# EAGLE library part DSPIC30F3011 (library @Club_Microchip_divers-)
dsPIC Motion Controller DSC
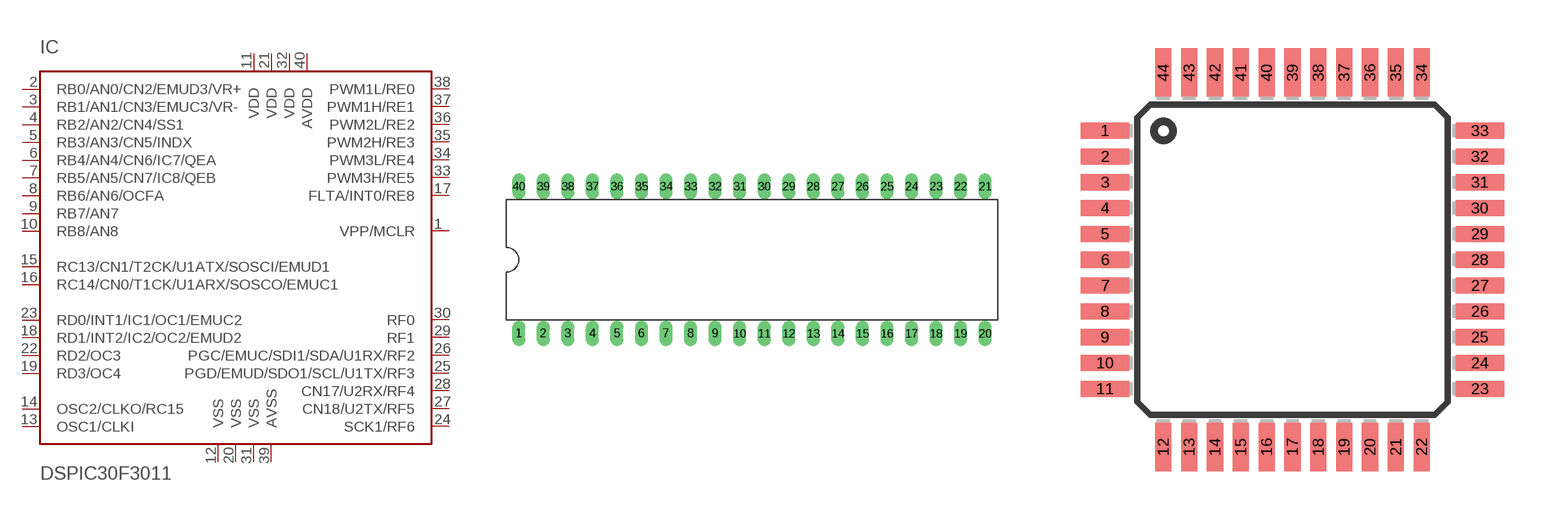
[diagram p16: symbol with the pads of DIL40; footprints DIL40, TQFP44]

Designator prefix IC

## DSPIC30F3011/P  [DIL40]
1  VPP/MCLR  in
2  RB0/AN0/CN2/EMUD3/VR+
3  RB1/AN1/CN3/EMUC3/VR-
4  RB2/AN2/CN4/SS1
5  RB3/AN3/CN5/INDX
6  RB4/AN4/CN6/IC7/QEA
7  RB5/AN5/CN7/IC8/QEB
8  RB6/AN6/OCFA
9  RB7/AN7
10  RB8/AN8
11  VDD  pwr
12  VSS  pwr
13  OSC1/CLKI  in
14  OSC2/CLKO/RC15
15  RC13/CN1/T2CK/U1ATX/SOSCI/EMUD1
16  RC14/CN0/T1CK/U1ARX/SOSCO/EMUC1
17  FLTA/INT0/RE8
18  RD1/INT2/IC2/OC2/EMUD2
19  RD3/OC4
20  VSS  pwr
21  VDD  pwr
22  RD2/OC3
23  RD0/INT1/IC1/OC1/EMUC2
24  SCK1/RF6
25  PGD/EMUD/SDO1/SCL/U1TX/RF3
26  PGC/EMUC/SDI1/SDA/U1RX/RF2
27  CN18/U2TX/RF5
28  CN17/U2RX/RF4
29  RF1
30  RF0
31  VSS  pwr
32  VDD  pwr
33  PWM3H/RE5
34  PWM3L/RE4
35  PWM2H/RE3
36  PWM2L/RE2
37  PWM1H/RE1
38  PWM1L/RE0
39  AVSS  pwr
40  AVDD  pwr

## DSPIC30F3011/PT  [TQFP44]
1  PGC/EMUC/SDI1/SDA/U1RX/RF2
2  CN18/U2TX/RF5
3  CN17/U2RX/RF4
4  RF1
5  RF0
6  VSS  pwr
7  VDD  pwr
8  PWM3H/RE5
9  PWM3L/RE4
10  PWM2H/RE3
11  PWM2L/RE2
14  PWM1H/RE1
15  PWM1L/RE0
16  AVSS  pwr
17  AVDD  pwr
18  VPP/MCLR  in
19  RB0/AN0/CN2/EMUD3/VR+
20  RB1/AN1/CN3/EMUC3/VR-
21  RB2/AN2/CN4/SS1
22  RB3/AN3/CN5/INDX
23  RB4/AN4/CN6/IC7/QEA
24  RB5/AN5/CN7/IC8/QEB
25  RB6/AN6/OCFA
26  RB7/AN7
27  RB8/AN8
28  VDD  pwr
29  VSS  pwr
30  OSC1/CLKI  in
31  OSC2/CLKO/RC15
32  RC13/CN1/T2CK/U1ATX/SOSCI/EMUD1
35  RC14/CN0/T1CK/U1ARX/SOSCO/EMUC1
36  FLTA/INT0/RE8
37  RD1/INT2/IC2/OC2/EMUD2
38  RD3/OC4
39  VSS  pwr
40  VDD  pwr
41  RD2/OC3
42  RD0/INT1/IC1/OC1/EMUC2
43  SCK1/RF6
44  PGD/EMUD/SDO1/SCL/U1TX/RF3

## DSPIC30F3011/ML  [QFN44-8X8]
1  PGC/EMUC/SDI1/SDA/U1RX/RF2
2  CN18/U2TX/RF5
3  CN17/U2RX/RF4
4  RF1
5  RF0
6  VSS  pwr
7  VDD  pwr
9  PWM3H/RE5
10  PWM3L/RE4
11  PWM2H/RE3
12  PWM2L/RE2
14  PWM1H/RE1
15  PWM1L/RE0
16  AVSS  pwr
17  AVDD  pwr
18  VPP/MCLR  in
19  RB0/AN0/CN2/EMUD3/VR+
20  RB1/AN1/CN3/EMUC3/VR-
21  RB2/AN2/CN4/SS1
22  RB3/AN3/CN5/INDX
23  RB4/AN4/CN6/IC7/QEA
24  RB5/AN5/CN7/IC8/QEB
25  RB6/AN6/OCFA
26  RB7/AN7
27  RB8/AN8
28  VDD  pwr
30  VSS  pwr
32  OSC1/CLKI  in
33  OSC2/CLKO/RC15
34  RC13/CN1/T2CK/U1ATX/SOSCI/EMUD1
35  RC14/CN0/T1CK/U1ARX/SOSCO/EMUC1
36  FLTA/INT0/RE8
37  RD1/INT2/IC2/OC2/EMUD2
38  RD3/OC4
39  VSS  pwr
40  VDD  pwr
41  RD2/OC3
42  RD0/INT1/IC1/OC1/EMUC2
43  SCK1/RF6
44  PGD/EMUD/SDO1/SCL/U1TX/RF3

## Footprint DIL40 (pad centres in mm)
Dual In Line package type P
drill 0.813 long: 1 -24.13,-7.62; 2 -21.59,-7.62; 3 -19.05,-7.62; 4 -16.51,-7.62; 5 -13.97,-7.62; 6 -11.43,-7.62; 7 -8.89,-7.62; 8 -6.35,-7.62; 9 -3.81,-7.62; 10 -1.27,-7.62; 11 1.27,-7.62; 12 3.81,-7.62; 13 6.35,-7.62; 14 8.89,-7.62; 15 11.43,-7.62; 16 13.97,-7.62; 17 16.51,-7.62; 18 19.05,-7.62; 19 21.59,-7.62; 20 24.13,-7.62; 21 24.13,7.62; 22 21.59,7.62; 23 19.05,7.62; 24 16.51,7.62; 25 13.97,7.62; 26 11.43,7.62; 27 8.89,7.62; 28 6.35,7.62; 29 3.81,7.62; 30 1.27,7.62; 31 -1.27,7.62; 32 -3.81,7.62; 33 -6.35,7.62; 34 -8.89,7.62; 35 -11.43,7.62; 36 -13.97,7.62; 37 -16.51,7.62; 38 -19.05,7.62; 39 -21.59,7.62; 40 -24.13,7.62

## Footprint TQFP44 (pad centres in mm)
Thin Quad Flat Pack package type TQ
smd 1.5 x 0.5: 1 -5.8,4; 2 -5.8,3.2; 3 -5.8,2.4; 4 -5.8,1.6; 5 -5.8,0.8; 6 -5.8,0; 7 -5.8,-0.8; 8 -5.8,-1.6; 9 -5.8,-2.4; 10 -5.8,-3.2; 11 -5.8,-4; 23 5.8,-4; 24 5.8,-3.2; 25 5.8,-2.4; 26 5.8,-1.6; 27 5.8,-0.8; 28 5.8,0; 29 5.8,0.8; 30 5.8,1.6; 31 5.8,2.4; 32 5.8,3.2; 33 5.8,4
smd 0.5 x 1.5: 12 -4,-5.8; 13 -3.2,-5.8; 14 -2.4,-5.8; 15 -1.6,-5.8; 16 -0.8,-5.8; 17 0,-5.8; 18 0.8,-5.8; 19 1.6,-5.8; 20 2.4,-5.8; 21 3.2,-5.8; 22 4,-5.8; 34 4,5.8; 35 3.2,5.8; 36 2.4,5.8; 37 1.6,5.8; 38 0.8,5.8; 39 0,5.8; 40 -0.8,5.8; 41 -1.6,5.8; 42 -2.4,5.8; 43 -3.2,5.8; 44 -4,5.8

## Footprint QFN44-8X8 (pad centres in mm)
Quad Flat No Lead
smd 0.6 x 0.37: 1 3.825,-3.25; 2 3.825,-2.6; 3 3.825,-1.95; 4 3.825,-1.3; 5 3.825,-0.65; 6 3.825,0; 7 3.825,0.65; 8 3.825,1.3; 9 3.825,1.95; 10 3.825,2.6; 11 3.825,3.25; 23 -3.825,3.25; 24 -3.825,2.6; 25 -3.825,1.95; 26 -3.825,1.3; 27 -3.825,0.65; 28 -3.825,0; 29 -3.825,-0.65; 30 -3.825,-1.3; 31 -3.825,-1.95; 32 -3.825,-2.6; 33 -3.825,-3.25
smd 0.37 x 0.6: 12 3.25,3.825; 13 2.6,3.825; 14 1.95,3.825; 15 1.3,3.825; 16 0.65,3.825; 17 0,3.825; 18 -0.65,3.825; 19 -1.3,3.825; 20 -1.95,3.825; 21 -2.6,3.825; 22 -3.25,3.825; 34 -3.25,-3.825; 35 -2.6,-3.825; 36 -1.95,-3.825; 37 -1.3,-3.825; 38 -0.65,-3.825; 39 0,-3.825; 40 0.65,-3.825; 41 1.3,-3.825; 42 1.95,-3.825; 43 2.6,-3.825; 44 3.25,-3.825